# Altium footprint library Voltage Regulator.PcbLib: 1 footprints
Each footprint in its own frame and in the unit in brackets; x right, y up, seen from the top. Pads: shape width x height; smd on the part's side, far side on the other; paste and mask are expansions set on the pad; w line width, h text height; cw(c..) or ccw(c..) is an arc to the next point about the centre after c.
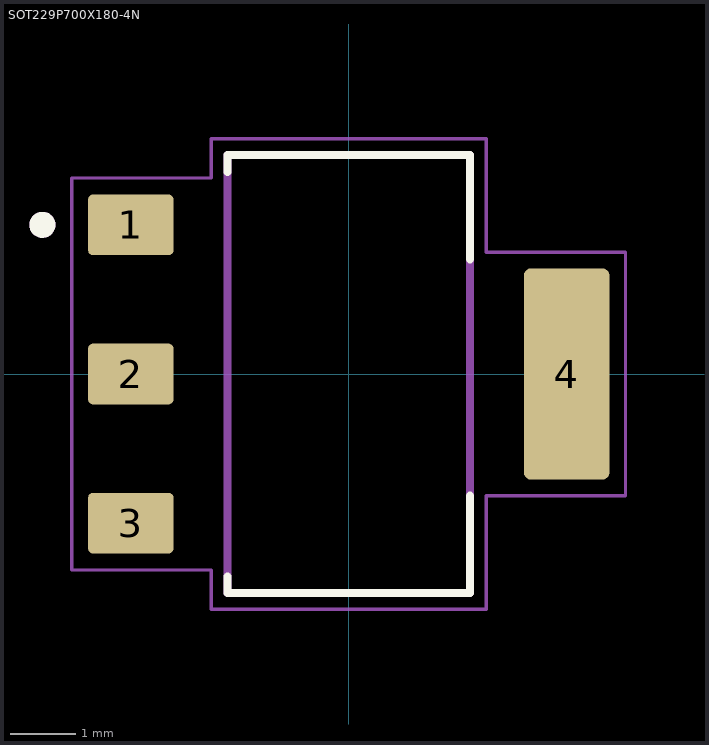
[diagram p0: the footprint, top view; thin cyan lines are the x and y axes]

## SOT229P700X180-4N [mm]
pads (4):
  rrect15% 1.31x0.93 smd: 1(-3.345,2.29) 2(-3.345,0) 3(-3.345,-2.29)
  rrect15% 1.31x3.24 smd: 4(3.345,0)
Top Overlay:
  circle w0.2: c-4.703,2.29 r0.1
  lines w0.127: -1.86,-3.11 -1.86,-3.36 1.86,-3.36 1.86,-1.87 ; -1.86,3.1 -1.86,3.36 1.86,3.36 1.86,1.76
Mechanical 13:
  circle w0.2: c-4.703,2.29 r0.1
  lines w0.127: -1.86,-3.36 1.86,-3.36 1.86,3.36 -1.86,3.36 -1.86,-3.36
Mechanical 15:
  lines w0.05: -4.25,-3.01 -4.25,3.01 -2.11,3.01 -2.11,3.61 2.11,3.61 2.11,1.87 4.25,1.87 4.25,-1.87 2.11,-1.87 2.11,-3.61 -2.11,-3.61 -2.11,-3.01 -4.25,-3.01
3D body "AMS1117.STEP": height 1.75, standoff -0.05, extent -3.499,-3.251 3.499,3.251